# Altium schematic symbol library SiLPA.SchLib: 19 symbols
Pins are listed as number, name and electrical type; pins without a type are passive.

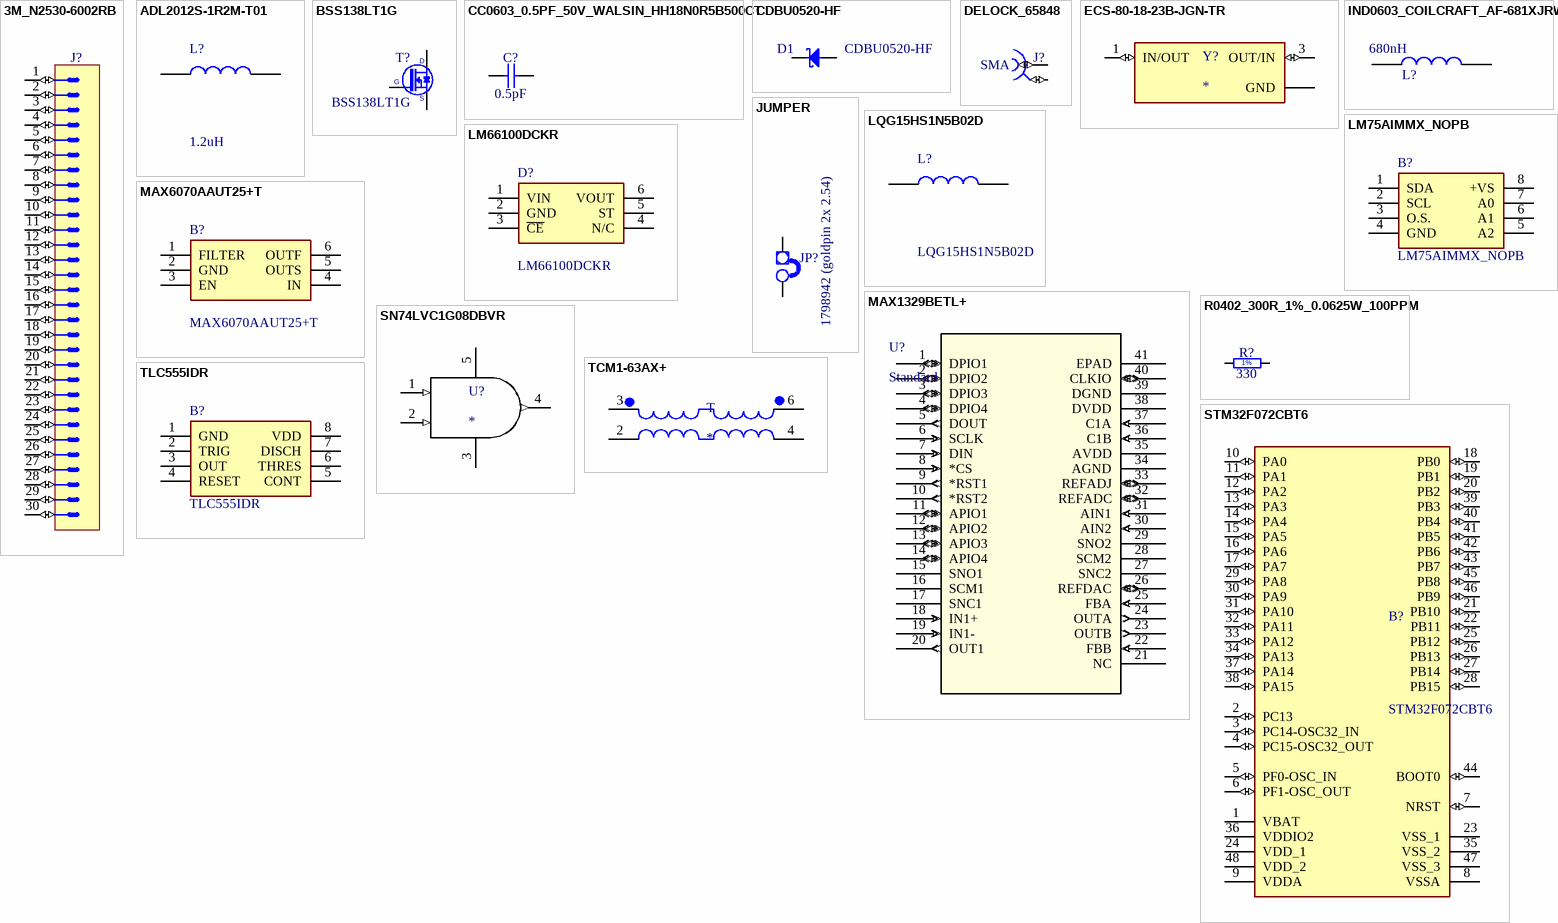
[diagram p0: symbols 3M_N2530-6002RB to TLC555IDR]

## 3M_N2530-6002RB
designator J?, comment Header 30  (value not drawn)
Connector 30 Male; Part Number: 3M_N2530-6002RB; Part Description: 30 Contacts - Straight .100'' x .100'' Low Profile Four-Wall Header, 2500 Series; Manufacturer: 3M; Manufacturer Part Number: N2530-6002RB; PressFit: No; Component Kind: Standard; Component Type: Standard; Footprint: 3M_N2530-6002RB; Pin Count: 30; Family: Header 30; Mounted: Yes; Socket: No; SMD: No; Sense: No; Status: None; ComponentHeight: 10.03mm; HelpURL: \\cern.ch\dfs\Applications\Altium\Datasheets\3M_N2530-6002RB.pdf; Author: CERN DEM JLC; CreateDate: 11.02.2009; LatestRevisionDate: 11.08.2009
footprint 3M_N2530-6002RB
pins: 1 (io), 2 (io), 3 (io), 4 (io), 5 (io), 6 (io), 7 (io), 8 (io), 9 (io), 10 (io), 11 (io), 12 (io), 13 (io), 14 (io), 15 (io), 16 (io), 17 (io), 18 (io), 19 (io), 20 (io), 21 (io), 22 (io), 23 (io), 24 (io), 25 (io), 26 (io), 27 (io), 28 (io), 29 (io), 30 (io)
1 alternate drawing of the same symbol

## ADL2012S-1R2M-T01
designator L?, comment 1.2uH
1.2uH Unshielded Drum Core, Wirewound Inductor 550 mA 500mOhm Max 0808 (2012 Metric); Part Number: 810-ADL2012S-1R2MT01; Part Description: Power Inductors - SMD 1.2uH 0.5ohm 20% AEC-Q200; Manufacturer: TDK; Manufacturer Part Number: ADL2012S-1R2M-T01; Power: 550mA; Resistance: 500mΩ; Tolerance: 20 %; Authors: skuchars; Component Kind: Standard; Component Type: Standard; Footprint: ADL2012S1R2MT01; Pin Count: 2; Value: 1.2uH; Status: None; Case: 0808; Mounted: Yes; Socket: No; SMD: Yes; Sense: No; ComponentHeight: 1.75mm; HelpURL: https://product.tdk.com/system/files/dam/doc/product/inductor/inductor/smd/catalog/inductor_automotive_decoupling_adl2012_en.pdf; CreateDate: 26.06.2025; LatestRevisionDate: 26.06.2025
footprint ADL2012S1R2MT01
pins: 1, 2

## BSS138LT1G
designator T?
N-CHANNEL MOSFET WITH DIODE; Part Description: 50V 200mA N-Channel Enhancement Mode Field-Effect Transistor; PressFit: No; Bonding: No; Part Number: BSS138LT1G; Component Kind: Standard; Component Type: Standard; Device: BSS138LT1G; Footprint: SOT95P240X110-3N; PackageDescription: SOT23, 0.95mm Pitch; 3 Pin, 1.40mm W X 3.00mm L X 1.10mm H body, IPC Medium Density; Manufacturer: 50V 200mA N-Channel Enhancement Mode Field-Effect Transistor; Manufacturer Part Number: BSS138LT1G; Pin Count: 3; Case: SOT23-3; Mounted: Yes; Socket: No; SMD: Yes; Sense: No; ComponentHeight: 1.11mm; HelpURL: \\cern.ch\dfs\Applications\Altium\Datasheets\BSS138LT1G.pdf; Author: skuchars; CreateDate: 01.07.2025; LatestRevisionDate: 01.07.2025
footprint SOT95P240X110-3N
pins: 1 G, 2 S, 3 D

## CC0603_0.5PF_50V_WALSIN_HH18N0R5B500CT
designator C?, comment 0.5pF
Non-polarised capacitor; Part Number: CC0603_0.5PF_50V; Part Description: SMD Multilayer Chip Ceramic Capacitor; Manufacturer: GENERIC; Manufacturer Part Number: HH18N0R5B500CT; Voltage: 50V; TC: X7R; Tolerance: ±20%; Component Kind: Standard; Component Type: Standard; Footprint: CAPC1608X87N; Pin Count: 2; Value: 0.5pF; Status: None; Case: 0603; Mounted: Yes; Socket: No; SMD: Yes; Sense: No; Manufacturer1 Example: WALSIN; Manufacturer1 Part Number: HH18N0R5B500CT; Manufacturer1 ComponentHeight: 0.9mm; CreateDate: 22.06.2025; LatestRevisionDate: 22.06.2025
footprint CAPC1608X87N
pins: 1, 2

## CDBU0520-HF
designator D1
Schottky Diode; Part Description: 20V Surface mount Schottky Barrier Diode; Manufacturer: COMCHIP; Voltage: 20V; Power: 500mA; PressFit: No; Bonding: No; Part Number: CDBU0520-HF; Component Kind: Standard; Component Type: Standard; Device: CDBU0520-HF; Footprint: SOD-523F; PackageDescription: Small Outline Diode Flat Lead (SOD-523F), Body; 1.80mm L X 1mm W X 0.85mm H; Manufacturer Part Number: CDBU0520-HF; Pin Count: 2; Case: SOD-523F; Mounted: Yes; Socket: No; SMD: Yes; Sense: No; ComponentHeight: 1mm; HelpURL: \\cern.ch\dfs\Applications\Altium\Datasheets\CDBU0520-HF.pdf; Author: CERN DEM HF; CreateDate: 13.10.2023; LatestRevisionDate: 13.10.2023
footprint CDBU
pins: 1 C, 2 A

## DELOCK_65848
designator J?, comment SMA
50 Ohm Through Hole SMA Right Angle PCB Jack; Part Number: DELOCK_65848; Manufacturer: DELOCK; Manufacturer Part Number: 5848 (4043619658480); PressFit: No; Component Kind: Standard; Component Type: Standard; Footprint: DELOCK_65848; Pin Count: 5; Family: SMA; Mounted: Yes; Socket: No; SMD: No; Sense: No; Status: None; Part Description: 50 Ohm Through Hole SMA Right Angle PCB Jack; ComponentHeight: 12.5; HelpURL: \\cern.ch\dfs\Applications\Altium\Datasheets\AMPHENOL_132203-16.pdf; Author: GK; CreateDate: 13.05.2019; LatestRevisionDate: 13.05.2019
footprint DELOCK_65848
pins: 1 (io), 2 (io)

## ECS-80-18-23B-JGN-TR
designator Y?
8 MHz ±20ppm Crystal 18pF 60 Ohms 4-SMD, No Lead; Part Number: ECX-64-23B-4 ECS; Manufacturer: ECS Inc.; Value: 8 MHz; PressFit: No; Authors: skuchars; Component Kind: Standard; Component Type: Standard; Footprint: ECS-80-18-23B-JGN-TR; PackageDescription: 4-SMD, No Lead, 6.00mm x 3.50mm; Part Description: 8 MHz ±20ppm Crystal 18pF 60 Ohms 4-SMD, No Lead; Manufacturer Part Number: ECX-64-23B-4 ECS; Pin Count: 2; Mounted: Yes; Socket: No; SMD: Yes; Sense: No; Bonding: No; ComponentHeight: 1.10mm; HelpURL: https://ecsxtal.com/store/pdf/ECX-64.pdf; CreateDate: 26.06.2025; LatestRevisionDate: 27.06.2025
footprint XTAL_ECS-147-20-23B-TR
pins: 1 IN/OUT (io), 2 GND (power), 3 OUT/IN (io), 4 GND (power)

## IND0603_COILCRAFT_AF-681XJRW
designator L?, comment 680nH
Fixed Inductors 1608 680nH Unshld 5% 490mA 460mOhms; Part Number: 0603AF-681XJRW; Part Description: RF Inductors - SMD; Manufacturer: COILCRAFT; Resistance: 0.46R; Authors: skuchars; Tolerance: 5%; Footprint: 0603AF-681XJRW; Pin Count: 2; Value: 680nH; Power: 490mA; Manufacturer Part Number: 0603AF-681XJRW; Case: 0603; Mounted: Yes; Socket: No; SMD: Yes; Sense: No; ComponentHeight: 0.91mm; HelpURL: https://www.coilcraft.com/getmedia/d1383945-8e89-4315-a3c0-59c445701e7e/0603af.pdf; CreateDate: 25.06.2025; LatestRevisionDate: 25.06.2025
footprint 0603AF681XJRW
pins: 1, 2

## JUMPER
designator JP?, comment 1798942 (goldpin 2x 2.54)
Jumper; Supplier 1: Farnell; Supplier Part Number 1: 1798942
footprint Jumper
pins: 1 E1, 2 E2

## LM75AIMMX_NOPB
designator B?
+/-2C, 2.7V to 5.5V industry standard temperature sensor with I2C/SMBus interface; Part Number: LM75AIMMX/NOPB; Part Description: Industry-standard digital temperature sensor with an integrated sigma-delta (ADC) and I2C interface; Manufacturer: Texas Instruments; PressFit: No; Bonding: No; Authors: skuchars; Component Kind: Standard; Component Type: Standard; Device: LM75AIMMX/NOPB; Footprint: SOP65P490X110-8N; PackageDescription: VSSOP, 0.65mm pitch; 8 pin,3.00mm W X 3.00mm L X 1.1mm H bodyI, PC Medium Density; Manufacturer Part Number: LM75AIMMX/NOPB; Pin Count: 8; Case: VSSOP-8; Mounted: Yes; Socket: No; SMD: Yes; Sense: No; ComponentHeight: 1.1mm; HelpURL: https://www.ti.com/lit/ds/symlink/lm75a.pdf?ts=1751024731149; CreateDate: 26.06.2025; LatestRevisionDate: 27.06.2025
footprint SOP65P490X110-8N
pins: 1 SDA, 2 SCL, 3 O.S., 4 GND, 5 A2, 6 A1, 7 A0, 8 +VS

## LM66100DCKR
designator D?
1.5V to 5.5V 1.5A 0.5uA Ideal Diode; Part Description: Hot Swap Voltage Controllers 1.5V to 5.5V 1.5A 0.5uA Ideal Diode; Manufacturer: Texas Instruments; PressFit: No; Bonding: No; Authors: skuchars; Part Number: LM66100DCKR; Component Kind: Standard; Component Type: Standard; Device: LM66100DCKR; Footprint: SOP65P210X110-6N; PackageDescription: SOT, 1.1mm pitch; 6 pin, 1.40mm W X 2.00mm L X 1.1mm H body, IPC Medium Density; Manufacturer Part Number: LM66100DCKR; Pin Count: 6; Case: SC70-6; Mounted: Yes; Socket: No; SMD: Yes; Sense: No; ComponentHeight: 1.1mm; HelpURL: https://www.ti.com/lit/ds/symlink/lm66100.pdf?ts=1751990423789; CreateDate: 8.08.2025; LatestRevisionDate: 8.08.2025
footprint SOP65P210X110-6N
pins: 1 VIN, 2 GND, 3 ~{CE}, 4 N/C, 5 ST, 6 VOUT

## LQG15HS1N5B02D
designator L?
LQG15HS_02 Series Inductor 1.5nH +/-0.1nH 0402 (1005); Part Description: RF Inductors - SMD 1.5nH +-.1nH; Manufacturer: Murata Electronics; Power: 1000mA; Resistance: 0.07; Tolerance: ±0.1nH; Authors: skuchars; Part Number: LQG15HS1N5B02D; Component Kind: Standard; Component Type: Standard; Footprint: LQG15HS1N5B02D; Pin Count: 2; Value: 1.5nH; Status: None; Manufacturer Part Number: LQG15HS1N5B02D; Case: 0402; Mounted: Yes; Socket: No; SMD: Yes; Sense: No; ComponentHeight: 0.6mm; HelpURL: https://search.murata.co.jp/Ceramy/image/img/P02/JELF243B-0010.pdf; CreateDate: 26.06.2025; LatestRevisionDate: 27.06.2025
footprint LQG15WH0N7B02D
pins: 1, 2

## MAX1329BETL+
designator U?, comment Standard
Data Acquisition ADCs/DACs - Specialised 12-/16-Bit DAS with ADC, DACs, DPIOs, AP; Part Number: MAX1329BETL+; Manufacturer: Maxim Integrated Products; PressFit: No; Bonding: No; Authors: skuchars; Component Kind: Standard; Device: Standard; Footprint: MAX1329BETL+; PackageDescription: Space-Saving, 6mm x 6mm, 40-Pin Thin QFN; Part Description: Data Acquisition ADCs/DACs - Specialised 12-/16-Bit DAS with ADC, DACs, DPIOs, AP; Manufacturer Part Number: MAX1329BETL+; Pin Count: 40; Case: QFN-40; Mounted: Yes; Socket: No; SMD: Yes; Sense: No; ComponentHeight: 0.8mm; HelpURL: https://www.analog.com/media/en/technical-documentation/data-sheets/MAX1329.pdf; CreateDate: 13.10.2023; LatestRevisionDate: 25.06.2025
footprint 21-0141_T4066+5_MXM
pins: 1 DPIO1 (io), 2 DPIO2 (io), 3 DPIO3 (io), 4 DPIO4 (io), 5 DOUT (out), 6 SCLK (in), 7 DIN (in), 8 *CS (in), 9 *RST1 (out), 10 *RST2 (out), 11 APIO1 (io), 12 APIO2 (io), 13 APIO3 (io), 14 APIO4 (io), 15 SNO1, 16 SCM1, 17 SNC1, 18 IN1+ (in), 19 IN1- (in), 20 OUT1 (out), 21 NC, 22 FBB (in), 23 OUTB (out), 24 OUTA (out), 25 FBA (in), 26 REFDAC (io), 27 SNC2, 28 SCM2, 29 SNO2, 30 AIN2 (in), 31 AIN1 (in), 32 REFADC (io), 33 REFADJ (io), 34 AGND (power), 35 AVDD (power), 36 C1B (in), 37 C1A (in), 38 DVDD (power), 39 DGND (power), 40 CLKIO (io), 41 EPAD

## MAX6070AAUT25+T
designator B?
Voltage References Low Noise/Drift Voltage Reference; Part Description: 2.5V, 10mA, Ultra-High-Precision Voltage References; Manufacturer: Analog Devices; Manufacturer Part Number: MAX6070AAUT25+T6; PressFit: No; Bonding: No; Authors: skuchars; Part Number: MAX6070AAUT25+T; Component Kind: Standard; Component Type: Standard; Device: MAX6070AAUT25+T; Footprint: SOT95P280X145-6N; PackageDescription: SOT-23-6, 0.78mm x 1.41mm WLP with 0.35mm Bump Spacing; Pin Count: 6; Case: SOT-23-6; Mounted: Yes; Socket: No; SMD: Yes; Sense: No; ComponentHeight: 1.45mm; HelpURL: https://www.analog.com/media/en/technical-documentation/data-sheets/max6070-max6071.pdf; CreateDate: 26.06.2025; LatestRevisionDate: 27.06.2025
footprint SOT95P280X145-6N
pins: 1 FILTER, 2 GND, 3 EN, 4 IN, 5 OUTS, 6 OUTF

## R0402_300R_1%_0.0625W_100PPM
designator R?, comment 330
Resistor - 1%; Part Number: R0402_330R_1%_0.0625W_100PPM; Part Description: General Purpose Thick Film Chip Resistor; Manufacturer: GENERIC; Manufacturer1 Part Number: RC0402FR-10330RL; Power: 0.0625W; TC: ±100ppm/°C; PressFit: No; Component Kind: Standard; Component Type: Standard; Footprint: RESC1005X40N; Pin Count: 2; Value: 330; Status: Not Recommended; Tolerance: ±1%; Manufacturer Part Number: R0402_330R_1%_0.0625W_100PPM; Case: 0402; Mounted: Yes; Sense: No; Socket: No; SMD: Yes; Manufacturer1 Example: YAGEO PHYCOMP; Manufacturer1 ComponentHeight: 0.4mm; HelpURL: https://www.yageo.com/upload/media/product/products/datasheet/rchip/PYu-RC_Group_51_RoHS_L_12.pdf; Author: CERN DEM JLC; CreateDate: 03.12.2007; LatestRevisionDate: 17.10.2012
footprint RESC1005X40N
pins: 1, 2
text: 1%

## SN74LVC1G08DBVR
designator U?
Logic Gates Single 2 Input A 595-SN74LVC1G08DBVT; Part Number: SN74LVC1G08DBVR; Part Description: Single 2-Input Positive-AND Gate; Manufacturer: Texas Instruments; PressFit: No; Bonding: No; Authors: skuchars; Component Kind: Standard; Component Type: Standard; Device: SN74LVC1G08DBVR; Footprint: SOT95P280X145-5N; PackageDescription: SOT, 0.95mm Pitch; 5 Pin, 1.60mm W X 2.90mm L X 1.45mm H body, IPC Medium Density; Manufacturer Part Number: SN74LVC1G08DBVR; Pin Count: 5; Case: SOT-23-5; Mounted: Yes; Socket: No; SMD: Yes; Sense: No; ComponentHeight: 1.15 mm; HelpURL: https://www.ti.com/lit/gpn/sn74lvc1g08; CreateDate: 13.10.2023; LatestRevisionDate: 25.06.2025
footprint SN74LVC1G08DBVR
pins: 1 A (in), 2 B (in), 3 V- (power), 4 Y (out), 5 V+ (power)

## STM32F072CBT6
designator B?
STMICROELECTRONICS - STM32F072CBT6 - MCU, 32BIT, CORTEX-M0, 48MHZ, LQFP-48; Part Description: ARM Microcontrollers - MCU Mainstream Arm Cortex-M0 USB line MCU 128 Kbytes of Flash 48 MHz CPU, USB, CAN; PressFit: No; Bonding: No; Authors: skuchars; Part Number: STM32F072CBT6; Component Kind: Standard; Component Type: Standard; Device: STM32F072CBT6; Footprint: QFP50P900X900X160-48N; PackageDescription: 48-Pin Low Profile Quad Flat Package, Body 7 x 7 mm, Pitch 0.5 mm; Manufacturer: STMicroelectronics; Manufacturer Part Number: STM32F072CBT6; Pin Count: 48; Case: LQFP-48; Mounted: Yes; Socket: No; SMD: Yes; Sense: No; ComponentHeight: 1.6mm; HelpURL: https://www.st.com/resource/en/datasheet/stm32f072cb.pdf; CreateDate: 28.09.2025; LatestRevisionDate: 28.09.2025
footprint QFP50P900X900X160-48N
pins: 1 VBAT, 2 PC13 (io), 3 PC14-OSC32_IN (io), 4 PC15-OSC32_OUT (io), 5 PF0-OSC_IN (io), 6 PF1-OSC_OUT (io), 7 NRST (io), 8 VSSA (power), 9 VDDA, 10 PA0 (io), 11 PA1 (io), 12 PA2 (io), 13 PA3 (io), 14 PA4 (io), 15 PA5 (io), 16 PA6 (io), 17 PA7 (io), 18 PB0 (io), 19 PB1 (io), 20 PB2 (io), 21 PB10 (io), 22 PB11 (io), 23 VSS_1 (power), 24 VDD_1, 25 PB12 (io), 26 PB13 (io), 27 PB14 (io), 28 PB15 (io), 29 PA8 (io), 30 PA9 (io), 31 PA10 (io), 32 PA11 (io), 33 PA12 (io), 34 PA13 (io), 35 VSS_2 (power), 36 VDDIO2, 37 PA14 (io), 38 PA15 (io), 39 PB3 (io), 40 PB4 (io), 41 PB5 (io), 42 PB6 (io), 43 PB7 (io), 44 BOOT0 (io), 45 PB8 (io), 46 PB9 (io), 47 VSS_3 (power), 48 VDD_2

## TCM1-63AX+
designator T
1:1 CORE & WIRE Transformer, 10 - 6000 MHz, 50Ω; Part Number: TCM1-63AX+; Manufacturer: Mini-Circuits; Power: 0.2W; Authors: skuchars; Component Kind: Standard; Component Type: Standard; Footprint: XFMR_TCM1-63AX+; Pin Count: 6; Value: 1:1; Status: None; Part Description: 1:1 CORE & WIRE Transformer, 10 - 6000 MHz, 50Ω; Manufacturer Part Number: TCM1-63AX+; Mounted: Yes; Socket: No; Sense: No; SMD: Yes; ComponentHeight: 4.06mm; HelpURL: https://www.minicircuits.com/pdfs/TCM1-63AX+.pdf; CreateDate: 28.09.2025; LatestRevisionDate: 28.09.2025
footprint XFMR_TCM1-63AX+
pins: 2, 3, 4, 6

## TLC555IDR
designator B?
TLC555IDR, Timer 2MHz, 3 ??? 15 V, 8-Pin SOIC-8; Part Description: 2.1-MHz, 250-µA, Low-Power Timer; Manufacturer: Texas Instruments; PressFit: No; Bonding: No; Authors: skuchars; Part Number: TLC555IDR; Component Kind: Standard; Component Type: Standard; Device: TLC555IDR; Footprint: SOIC127P600X175-8N; PackageDescription: SOIC 8, Pitch 1.27mm, Body 4x5mm, IPC Medium Density; Manufacturer Part Number: TLC555IDR; Pin Count: 8; Case: SOIC-8; Mounted: Yes; Socket: No; SMD: Yes; Sense: No; ComponentHeight: 1.75mm; HelpURL: https://www.ti.com/lit/ds/symlink/tlc555.pdf?ts=1751015842319; CreateDate: 26.06.2025; LatestRevisionDate: 27.06.2025
footprint SOIC127P600X175-8N
pins: 1 GND, 2 TRIG, 3 OUT, 4 RESET, 5 CONT, 6 THRES, 7 DISCH, 8 VDD